# EAGLE library part NRF24L01-SMA (library NRF24L01)
NRF24L01 module with a SMA connector
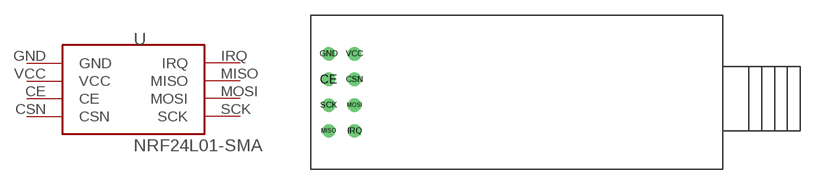
[diagram p0: symbol with the pads of NRF24L01-SMA; footprint NRF24L01-SMA]

Designator prefix -

## NRF24L01-SMA  [NRF24L01-SMA]
CE  CE
CSN  CSN
GND  GND
IRQ  IRQ
MISO  MISO
MOSI  MOSI
SCK  SCK
VCC  VCC

## Footprint NRF24L01-SMA (pad centres in mm)
drill 0.8: CE -18.542,1.27; CSN -16.002,1.27; GND -18.542,3.81; IRQ -16.002,-3.81; MISO -18.542,-3.81; MOSI -16.002,-1.27; SCK -18.542,-1.27; VCC -16.002,3.81